# Altium integrated library My_Library_THT_Zener_Diode.IntLib: 2 symbols
Pins are listed as number, name and electrical type; pins without a type are passive.

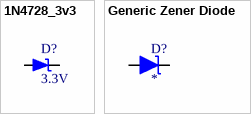
[diagram p0: symbols 1N4728_3v3 to Generic Zener Diode]

## 1N4728_3v3
designator D?, comment 3.3V
footprint DO-41-8mm
footprint DO-41-10mm
pins: A, C

## Generic Zener Diode
designator D?
pins: A, C